# Altium footprint library OPL_Capacitor.PCBLIB: 12 footprints
Each footprint in its own frame and in the unit in brackets; x right, y up, seen from the top. Pads: shape width x height; smd on the part's side, far side on the other; paste and mask are expansions set on the pad; w line width, h text height; cw(c..) or ccw(c..) is an arc to the next point about the centre after c.
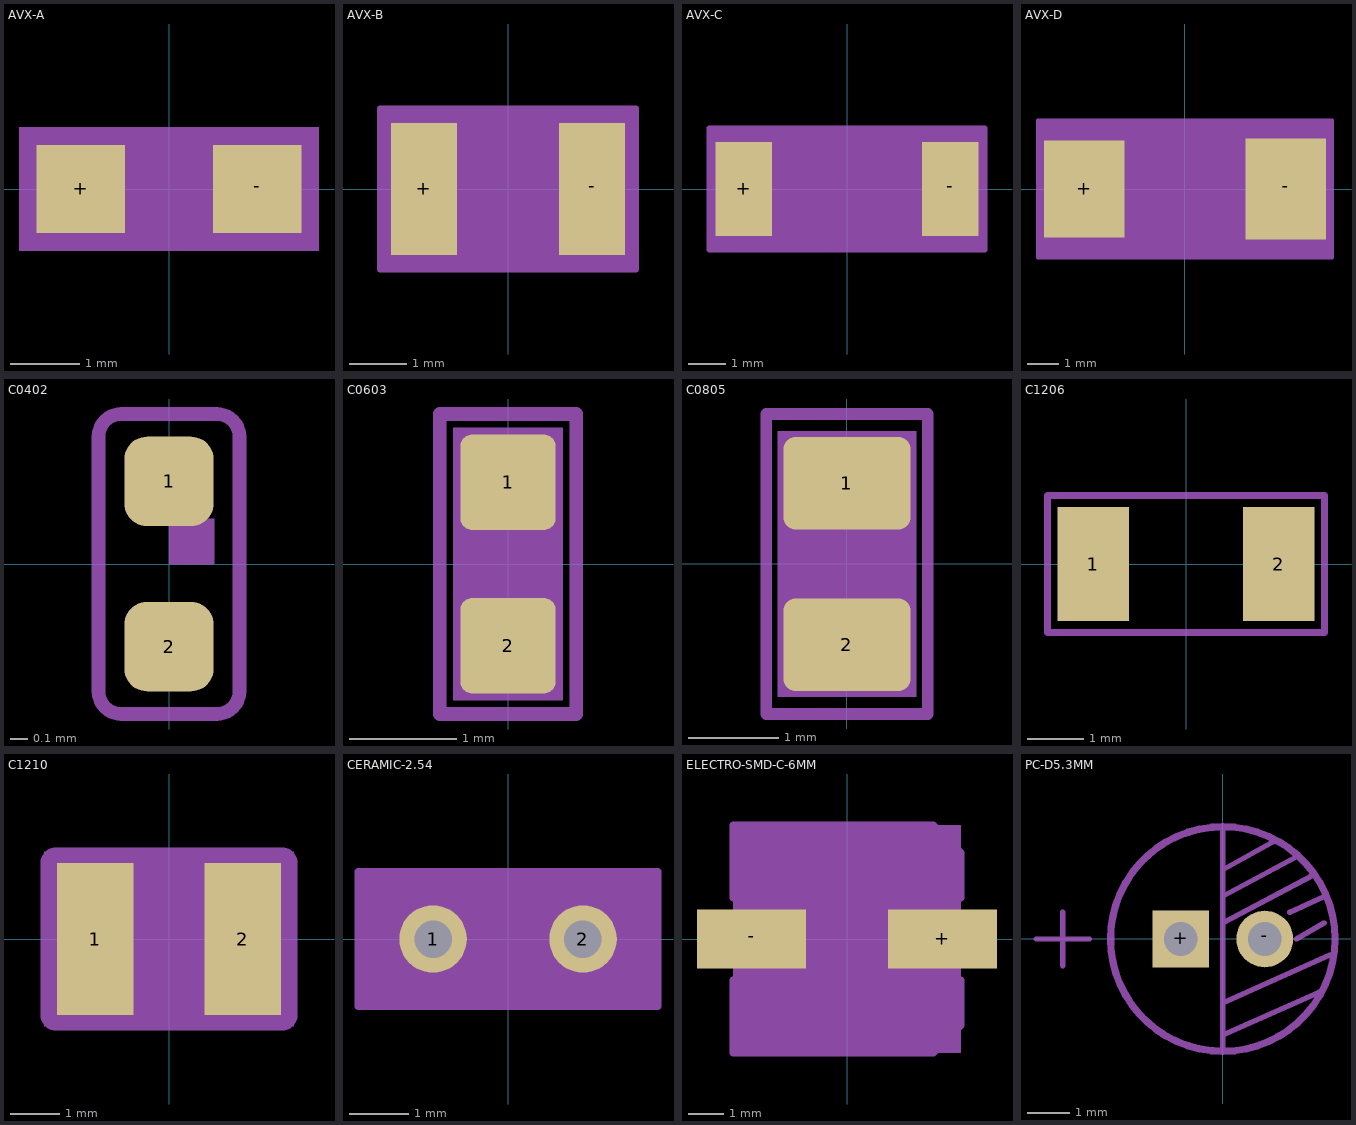
[diagram p0: the footprints below, top view; thin cyan lines are the x and y axes]

## AVX-A [mil]
pads (2):
  rect 50x50 smd: +(-50,0) -(50,0)
Mechanical 2:
  lines w5: -17.5,0 2.5,0 ; -7.5,-10 -7.5,10 ; -82.5,-32.5 82.5,-32.5 82.5,32.5 -82.5,32.5 -82.5,-32.5
Mech34:
  region: -85,-35 -85,35 85,35 85,-35

## AVX-B [mil]
pads (2):
  rect 45x90 smd: +(-57.5,0) -(57.5,0)
Mechanical 2:
  lines w4: -87.5,-55 87.5,-55 87.5,55 -87.5,55 -87.5,-55
  lines w5: -27.5,0 -7.5,0 ; -17.5,-10 -17.5,10
Mech34:
  region: -87.5,-55 -87.5,55 87.5,55 87.5,-55

## AVX-C [mil]
pads (2):
  rect 60x100 smd: +(-110,0) -(110,0)
Mechanical 2:
  lines w5: -67.5,0 -37.5,0 ; -52.5,-15 -52.5,15 ; -147.5,-65 147.5,-65 147.5,65 -147.5,65 -147.5,-65
Mech34:
  region: -147.5,-65 -147.5,65 147.5,65 147.5,-65

## AVX-D [mil]
pads (2):
  rect 100x120 smd: +(-125,0)
  rect 100x125 smd: -(125,0)
Mechanical 2:
  lines w5: -67.5,0 -37.5,0 ; -52.5,-15 -52.5,15 ; -182.5,-85 182.5,-85 182.5,85 -182.5,85 -182.5,-85
Mech34:
  region: -182.5,-85 -182.5,85 182.5,85 182.5,-85

## C0402 [mil]
pads (2):
  rrect50% 19.69x19.69 smd: 1(0,18.21) 2(0,-18.21)
Mechanical 2:
  lines w3: -15.53,-28.03 ccw(c-10.53,-28.03) -10.53,-33.03 10.53,-33.03 ccw(c10.53,-28.03) 15.53,-28.03 15.53,28.03 ccw(c10.53,28.03) 10.53,33.03 -10.53,33.03 ccw(c-10.53,28.03) -15.53,28.03 -15.53,-28.03
Mechanical 8:
  region: 0,0 10,0 10,10 0,10

## C0603 [mil]
pads (2):
  rrect25% 35x35 smd: 1(0,30) 2(0,-30)
Mechanical 2:
  lines w5: -25,-55 25,-55 25,55 -25,55 -25,-55
Mech34:
  region: -20,50 20,50 20,-50 -20,-50

## C0805 [mil]
pads (2):
  rrect25% 55x40 smd: 1(0,35) 2(0,-35)
Mechanical 2:
  lines w5: -35,-65 35,-65 35,65 -35,65 -35,-65
Mech34:
  region: -30,57.5 30,57.5 30,-57.5 -30,-57.5

## C1206 [mil]
pads (2):
  rect 50x80 smd: 1(-65,0) 2(65,0)
Mechanical 2:
  lines w5: -97,-48 97,-48 97,48 -97,48 -97,-48

## C1210 [mil]
pads (2):
  rect 61.02x122.05 smd: 1(-59.06,0) 2(59.06,0)
Mechanical 2:
  lines w5: -100.39,-60.87 ccw(c-90.39,-60.87) -90.39,-70.87 90.39,-70.87 ccw(c90.39,-60.87) 100.39,-60.87 100.39,60.87 ccw(c90.39,60.87) 90.39,70.87 -90.39,70.87 ccw(c-90.39,60.87) -100.39,60.87 -100.39,-60.87
Mech34:
  region: -100,-70 -100,70 100,70 100,-70

## CERAMIC-2.54 [mil]
pads (2):
  round 45 hole 25: 1(-50,0) 2(50,0)
Mechanical 2:
  lines w5: -100,-45 100,-45 100,45 -100,45 -100,-45
Mech34:
  region: -100,-45 -100,45 100,45 100,-45

## ELECTRO-SMD-C-6MM [mil]
pads (2):
  rect 120x65 smd: +(105,0) -(-105,0)
Mechanical 2:
  lines w8: -125,-45 -125,-125 95,-125 125,-95 125,-45 ; -125,45 -125,125 95,125 125,95 125,45 ; -108,-44 ccw(c0,0) 108,-44 ; -108,44 cw(c0,0) 108,44
Mech34:
  region: -125,-125 -125,125 125,125 125,-125

## PC-D5.3MM [mm]
pads (2):
  rect 1.35x1.35 hole 0.8: +(-1,0)
  round 1.35 hole 0.8: -(1,0)
Mechanical 2:
  circle w0.127: c0,0 r2.65
  lines w0.127: -4.445,0 -3.81,0 ; -3.81,-0.635 -3.81,0 ; -3.81,0.635 -3.81,0 ; -3.175,0 -3.81,0 ; 0,-2.667 0,-2.286 ; 0,2.667 0,1.651 ; 1.27,2.349 0,1.651 ; 1.587,0.635 2.413,1.016 ; 1.75,0 2.413,0.381 ; 1.778,1.968 0,1.016 ; 2.159,1.524 0,0.381 ; 2.286,-1.27 0,-2.286 ; 2.54,-0.381 0,-1.524 ; 0,-2.286 0,-1.524 ; 0,-1.524 0,0.381 ; 0,0.381 0,1.016 ; 0,1.016 0,1.651
Mech34:
  circle w0.127: c0,0 r2.694